# Altium footprint library Capacitor.PcbLib: 107 footprints (part 6 of 7)
Each footprint in its own frame and in the unit in brackets; x right, y up, seen from the top. Pads: shape width x height; smd on the part's side, far side on the other; paste and mask are expansions set on the pad; w line width, h text height; cw(c..) or ccw(c..) is an arc to the next point about the centre after c.
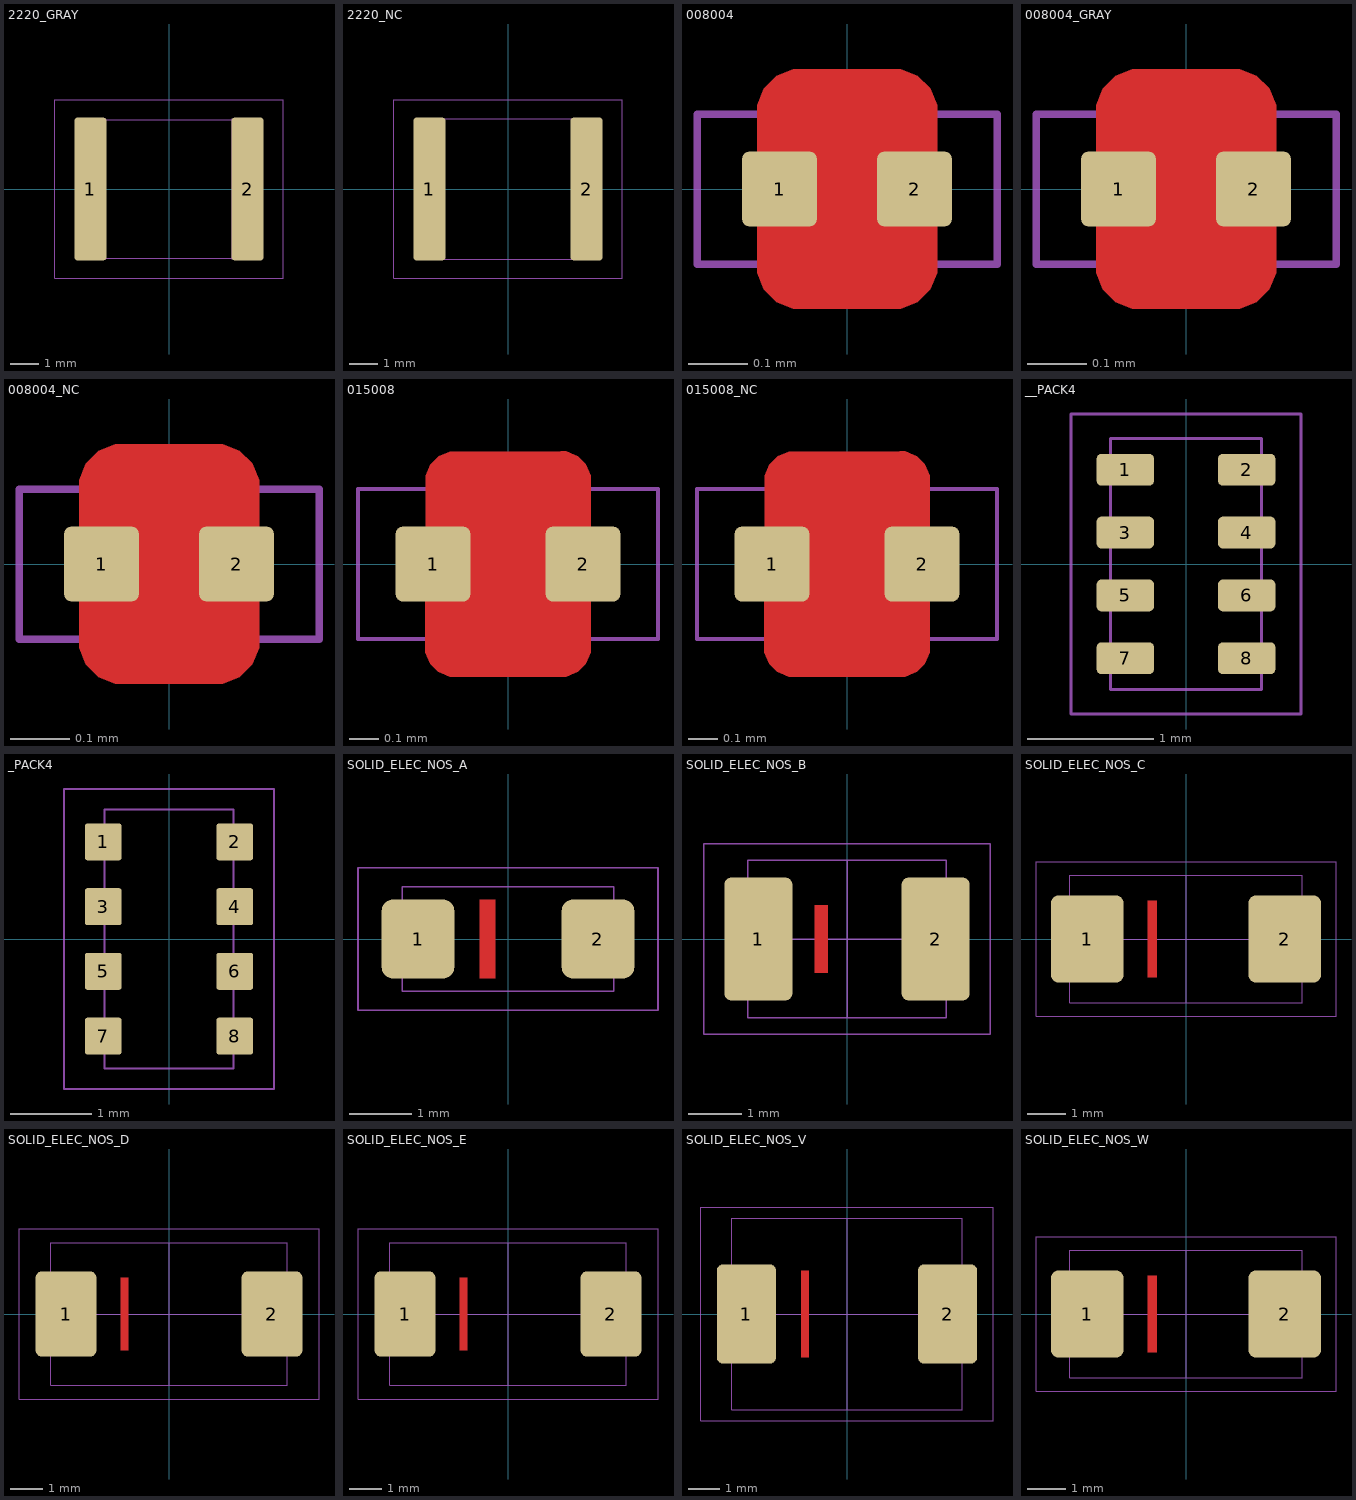
[diagram p5: the footprints below, top view; thin cyan lines are the x and y axes]

## 2220_GRAY [mil]
height 59.06
pads (2):
  rrect20% 45x200 smd: 1(-110,0) 2(110,0)
Top Designator:
  text ".Designator" at -127.64,-12.5 h35
Top Courtyard:
  lines w1: -160,-125 -160,125 160,125 160,-125 -160,-125
Top Component Outline:
  lines w1: -112.2,-98.43 -112.2,98.43 ; -111.01,-97 110.99,-97 ; -111,97 111,97 ; -88.58,-98.43 -88.58,98.43 ; 88.58,-98.43 88.58,98.43 ; 112.2,-98.43 112.2,98.43
3D body: height 60, standoff 0, extent 88.58,-98.43 112.2,98.43
3D body: height 59.06, standoff 1, extent -111,-97 111,97
3D body: height 60, standoff 0, extent -112.2,-98.43 -88.58,98.43

## 2220_NC [mil]
height 78.74
pads (2):
  rrect20% 45x200 smd: 1(-110,0) 2(110,0)
Top Designator:
  text ".Designator" at -127.64,-12.5 h35
Top Courtyard:
  lines w1: -160,-125 160,-125 160,125 -160,125 -160,-125
Top Component Outline:
  lines w1: -112.2,-98.43 112.2,-98.43 112.2,98.43 -112.2,98.43 -112.2,-98.43
3D body: height 1, standoff 0, extent -112.2,-98.43 112.2,98.43

## 008004 [mil]
height 5
pads (2):
  rrect20% 5x5 smd mask+0.5: 1(-4.5,0) 2(4.5,0)
Top Layer:
  pour cut-out: -3,8 -3.6,8 -4.7,7.54 -5.54,6.7 -6,5.6 -6,5 -6,-5 -6,-5.6 -5.54,-6.7 -4.7,-7.54 -3.6,-8 -3,-8 3,-8 3.6,-8 4.7,-7.54 5.54,-6.7 6,-5.6 6,-5 6,5 6,5.6 5.54,6.7 4.7,7.54 3.6,8 3,8
Top Solder:
  rectangle: -3,-5 3,5
Top Designator:
  text ".Designator" at -36.47,-3.57 h10
Top Courtyard:
  lines w0.5: -10,-5 10,-5 10,5 -10,5 -10,-5
Top Component Outline:
  lines w0.2: -4.92,-2.46 -4.92,2.46 ; -4.92,-2.16 4.92,-2.16 ; -4.92,2.16 4.92,2.16 ; -2.17,-2.46 -2.17,2.46 ; 2.17,-2.46 2.17,2.46 ; 4.92,-2.46 4.92,2.46
3D body: height 4.8, standoff -0.2, extent -4.72,-2.16 4.72,2.16
3D body: height 5, standoff -0.5, extent 2.17,-2.46 4.92,2.46
3D body: height 5, standoff -0.5, extent -4.92,-2.46 -2.17,2.46

## 008004_GRAY [mil]
height 5
pads (2):
  rrect20% 5x5 smd mask+0.5: 1(-4.5,0) 2(4.5,0)
Top Layer:
  pour cut-out: -3,8 -3.6,8 -4.7,7.54 -5.54,6.7 -6,5.6 -6,5 -6,-5 -6,-5.6 -5.54,-6.7 -4.7,-7.54 -3.6,-8 -3,-8 3,-8 3.6,-8 4.7,-7.54 5.54,-6.7 6,-5.6 6,-5 6,5 6,5.6 5.54,6.7 4.7,7.54 3.6,8 3,8
Top Solder:
  rectangle: -3,-5 3,5
Top Designator:
  text ".Designator" at -36.47,-3.57 h10
Top Courtyard:
  lines w0.5: -10,-5 -10,5 10,5 10,-5 -10,-5
Top Component Outline:
  lines w0.2: -4.92,-2.46 -4.92,2.46 ; -4.92,-2.16 4.92,-2.16 ; -4.92,2.16 4.92,2.16 ; -2.17,-2.46 -2.17,2.46 ; 2.17,-2.46 2.17,2.46 ; 4.92,-2.46 4.92,2.46
3D body: height 5, standoff -0.5, extent -4.92,-2.46 -2.17,2.46
3D body: height 5, standoff -0.5, extent 2.17,-2.46 4.92,2.46
3D body: height 4.8, standoff -0.2, extent -4.72,-2.16 4.72,2.16

## 008004_NC [mil]
height 5
pads (2):
  rrect20% 5x5 smd mask+0.5: 1(-4.5,0) 2(4.5,0)
Top Layer:
  pour cut-out: -3,8 -3.6,8 -4.7,7.54 -5.54,6.7 -6,5.6 -6,5 -6,-5 -6,-5.6 -5.54,-6.7 -4.7,-7.54 -3.6,-8 -3,-8 3,-8 3.6,-8 4.7,-7.54 5.54,-6.7 6,-5.6 6,-5 6,5 6,5.6 5.54,6.7 4.7,7.54 3.6,8 3,8
Top Solder:
  rectangle: -3,-5 3,5
Top Designator:
  text ".Designator" at -36.47,-3.57 h10
Top Courtyard:
  lines w0.5: -10,-5 -10,5 10,5 10,-5 -10,-5
Top Component Outline:
  lines w0.2: -4.92,-2.46 4.92,-2.46 4.92,2.46 -4.92,2.46 -4.92,-2.46
3D body: height 1, standoff 0, extent -4.92,-2.46 4.92,2.46

## 015008 [mil]
height 8
pads (2):
  rrect20% 10x10 smd mask+1: 1(-10,0) 2(10,0)
Top Layer:
  pour cut-out: -7,15 -7.8,15 -9.27,14.39 -10.39,13.27 -11,11.8 -11,11 -11,-11 -11,-11.8 -10.39,-13.27 -9.27,-14.39 -7.8,-15 -7,-15 7,-15 7.8,-15 9.27,-14.39 10.39,-13.27 11,-11.8 11,-11 11,11 11,11.8 10.4,13.27 9.27,14.4 7.8,15 7,15
Top Solder:
  rectangle: -7,-10 7,10
Top Designator:
  text ".Designator" at -36.47,-3.57 h10
Top Courtyard:
  lines w0.5: -20,-10 20,-10 20,10 -20,10 -20,-10
Top Component Outline:
  lines w0.5: -10,-5 -10,5 ; -9.8,-4.8 9.8,-4.8 ; -9.8,4.8 9.8,4.8 ; -5.28,-5 -5.28,5 ; 5.28,-5 5.28,5 ; 10,-5 10,5
3D body: height 10, standoff -0.5, extent -10,-5 -5.28,5
3D body: height 9.8, standoff -0.2, extent -9.8,-4.8 9.8,4.8
3D body: height 10, standoff -0.5, extent 5.28,-5 10,5

## 015008_NC [mil]
height 8
pads (2):
  rrect20% 10x10 smd mask+1: 1(-10,0) 2(10,0)
Top Layer:
  pour cut-out: -7,15 -7.8,15 -9.27,14.39 -10.39,13.27 -11,11.8 -11,11 -11,-11 -11,-11.8 -10.39,-13.27 -9.27,-14.39 -7.8,-15 -7,-15 7,-15 7.8,-15 9.27,-14.39 10.39,-13.27 11,-11.8 11,-11 11,11 11,11.8 10.4,13.27 9.27,14.4 7.8,15 7,15
Top Solder:
  rectangle: -7,-10 7,10
Top Designator:
  text ".Designator" at -36.47,-3.57 h10
Top Courtyard:
  lines w0.5: -20,-10 20,-10 20,10 -20,10 -20,-10
Top Component Outline:
  lines w0.5: -10,-5 -10,5 10,5 10,-5 -10,-5
3D body: height 1, standoff 0, extent -10,-5 10,5

## __PACK4 [mil]
pads (8):
  rrect30% 18x10 smd mask+2: 1(-19,29.53) 2(19,29.53) 3(-19,9.84) 4(19,9.84) 5(-19,-9.84) 6(19,-9.84) 7(-19,-29.53) 8(19,-29.53)
Top Designator:
  text ".Designator" at 12.5,-127.64 h35
Top Courtyard:
  lines w1: -36,-47 36,-47 36,47 -36,47 -36,-47
Top Component Outline:
  lines w1: -23.62,-39.37 -23.62,39.37 23.62,39.37 23.62,-39.37 -23.62,-39.37
3D body: height 23.62, standoff 0, extent -23.62,-39.37 23.62,39.37
3D body: height 24, standoff 0, extent -24,25 -16,34
3D body: height 24, standoff 0, extent -24,5.31 -16,14.31
3D body: height 24, standoff 0, extent -24,-14.37 -16,-5.37
3D body: height 24, standoff 0, extent -24,-34.06 -16,-25.06
3D body: height 24, standoff 0, extent 16,25.06 24,34.06
3D body: height 24, standoff 0, extent 16,5.37 24,14.37
3D body: height 24, standoff 0, extent 16,-14.31 24,-5.31
3D body: height 24, standoff 0, extent 16,-34 24,-25

## _PACK4 [mil]
pads (8):
  rrect15% 18x18 smd mask+2: 1(-32,47.24) 2(32,47.24) 3(-32,15.75) 4(32,15.75) 5(-32,-15.75) 6(32,-15.75) 7(-32,-47.24) 8(32,-47.24)
Top Designator:
  text ".Designator" at 12.5,-127.64 h35
Top Courtyard:
  lines w1: -51,-73 -51,73 51,73 51,-73 -51,-73
Top Component Outline:
  lines w1: -31.5,-62.99 -31.5,62.99 31.5,62.99 31.5,-62.99 -31.5,-62.99
3D body: height 33, standoff 0, extent 25.93,38.25 33.93,56.25
3D body: height 33, standoff 0, extent 25.93,6.76 33.93,24.76
3D body: height 33, standoff 0, extent 25.93,-24.74 33.93,-6.74
3D body: height 33, standoff 0, extent 25.93,-56.24 33.93,-38.24
3D body: height 33, standoff 0, extent -33.93,-56.25 -25.93,-38.25
3D body: height 33, standoff 0, extent -33.93,-24.76 -25.93,-6.76
3D body: height 33, standoff 0, extent -33.93,6.74 -25.93,24.74
3D body: height 33, standoff 0, extent -33.93,38.24 -25.93,56.24
3D body: height 32, standoff 0, extent -31.5,-62.99 31.5,62.99

## SOLID_ELEC_NOS_A [mil]
pads (2):
  rrect30% 46x50 smd paste-2: 1(-57,0) 2(57,0)
Top Layer:
  region: -8,25 -18,25 -18,-25 -8,-25
Top Designator:
  text ".Designator" at -127.64,-12.5 h35
Top Courtyard:
  lines w1: -95,-45 -95,45 95,45 95,-45 -95,-45
Top Component Outline:
  lines w1: -66.93,-33.07 66.93,-33.07 66.93,33.07 -66.93,33.07 -66.93,-33.07
3D body "NOS_A.stp": height 66.56, standoff -0.76, extent -66.93,-33.07 66.93,33.07

## SOLID_ELEC_NOS_B [mil]
pads (2):
  rrect20% 50x90 smd paste-3: 1(-65,0) 2(65,0)
Top Layer:
  region: -14,25 -24,25 -24,-25 -14,-25
Top Designator:
  text ".Designator" at -127.64,-12.5 h35
Top Courtyard:
  lines w1: -105,-70 105,-70 105,70 -105,70 -105,-70
Top Component Outline:
  lines w1: -72.84,0 72.84,0 ; 0,-57.68 0,57.68 ; -72.84,-57.68 72.84,-57.68 72.84,57.68 -72.84,57.68 -72.84,-57.68
3D body: height 79, standoff 75, extent -30,23.51 -10.08,43.47
3D body: height 79, standoff 75, extent -30,11.5 -10,38.5
3D body "NOS_B.stp": height 78.86, standoff -1.06, extent -72.84,-57.68 72.84,57.68

## SOLID_ELEC_NOS_C [mil]
pads (2):
  rrect20% 75x90 smd paste-5: 1(-102,0) 2(102,0)
Top Layer:
  region: -30,40 -40,40 -40,-40 -30,-40
Top Designator:
  text ".Designator" at -127.64,-12.5 h35
Top Courtyard:
  lines w1: -155,-80 -155,80 155,80 155,-80 -155,-80
Top Component Outline:
  lines w1: -120.08,0 120.08,0 ; 0,-65.95 0,65.95 ; -120.08,-65.95 -120.08,65.95 120.08,65.95 120.08,-65.95 -120.08,-65.95
3D body: height 106.1, standoff 105, extent -57,2 -27,42
3D body "NOS_C.stp": height 106.09, standoff -0.2, extent -120.08,-65.95 120.08,65.94
3D body: height 106.1, standoff 105, extent -52,27.01 -32.08,46.97

## SOLID_ELEC_NOS_D [mil]
pads (2):
  rrect20% 75x105 smd paste-5: 1(-127,0) 2(127,0)
Top Layer:
  region: -49.82,45.01 -59.82,45.01 -59.82,-44.99 -49.82,-44.99
Top Designator:
  text ".Designator" at -127.64,-12.5 h35
Top Courtyard:
  lines w1: -185,-105 -185,105 185,105 185,-105 -185,-105
Top Component Outline:
  lines w1: -145.66,0 145.66,0 ; 0,-87.6 0,87.6 ; -145.66,-87.6 145.66,-87.6 145.66,87.6 -145.66,87.6 -145.66,-87.6
3D body "NOS_D.stp": height 117.91, standoff -0.2, extent -145.66,-87.6 145.66,87.6
3D body: height 118, standoff 117, extent -86.82,20.01 -56.82,60.01
3D body: height 118, standoff 117, extent -81.83,45.02 -61.91,64.99

## SOLID_ELEC_NOS_E [mil]
pads (2):
  rrect20% 75x105 smd paste-5: 1(-127,0) 2(127,0)
Top Layer:
  region: -49.82,45.01 -59.82,45.01 -59.82,-44.99 -49.82,-44.99
Top Designator:
  text ".Designator" at -127.64,-12.5 h35
Top Courtyard:
  lines w1: -185,-105 185,-105 185,105 -185,105 -185,-105
Top Component Outline:
  lines w1: -145.66,0 145.66,0 ; 0,-87.6 0,87.6 ; -145.66,-87.6 -145.66,87.6 145.66,87.6 145.66,-87.6 -145.66,-87.6
3D body: height 165.3, standoff 165, extent -81.83,45.02 -61.91,64.98
3D body: height 165.3, standoff 165, extent -86.82,20.01 -56.82,60.01
3D body "NOS_E.stp": height 165.15, standoff -0.2, extent -145.66,-87.6 145.66,87.6

## SOLID_ELEC_NOS_V [mil]
pads (2):
  rrect20% 75x125 smd paste-5: 1(-127,0) 2(127,0)
Top Layer:
  region: -47.82,55 -57.82,55 -57.82,-55 -47.82,-55
Top Designator:
  text ".Designator" at -127.64,-12.5 h35
Top Courtyard:
  lines w1: -185,-135 -185,135 185,135 185,-135 -185,-135
Top Component Outline:
  lines w1: -145.67,0 145.67,0 ; 0,-121.06 0,121.06 ; -145.67,-121.06 145.67,-121.06 145.67,121.06 -145.67,121.06 -145.67,-121.06
3D body: height 145, standoff 144, extent -55,75.01 -35.08,94.98
3D body: height 145, standoff 144, extent -60,50 -30,90
3D body "NOS_V.stp": height 144.38, standoff -0.11, extent -145.67,-121.06 145.67,121.06

## SOLID_ELEC_NOS_W [mil]
pads (2):
  rrect20% 75x90 smd paste-5: 1(-102,0) 2(102,0)
Top Layer:
  region: -30,40 -40,40 -40,-40 -30,-40
Top Designator:
  text ".Designator" at -127.64,-12.5 h35
Top Courtyard:
  lines w1: -155,-80 -155,80 155,80 155,-80 -155,-80
Top Component Outline:
  lines w1: -120.08,0 120.08,0 ; 0,-65.95 0,65.95 ; -120.08,-65.95 -120.08,65.95 120.08,65.95 120.08,-65.95 -120.08,-65.95
3D body: height 56, standoff 55, extent -52.01,27.01 -32.09,46.97
3D body: height 56, standoff 55, extent -57,2 -27,42
3D body "NOS_W.stp": height 55.77, standoff -1.33, extent -120.08,-65.95 120.08,65.95